# EAGLE library part LAN9303_DEV (library Blizzard_Library)
LAN9303 3 Port Ethernet RMII Switch
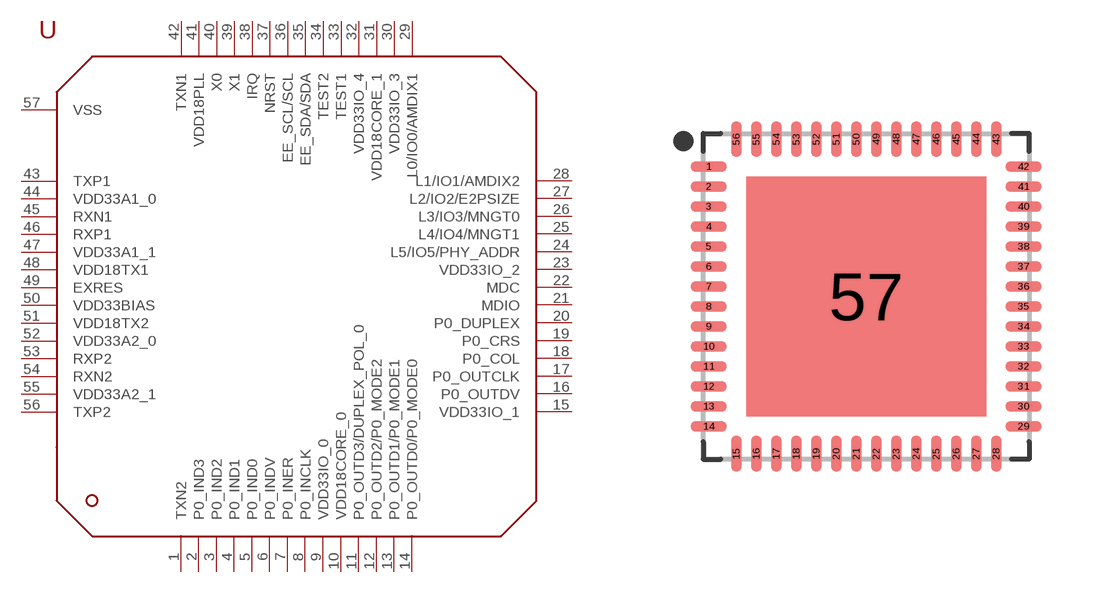
[diagram p22: symbol with the pads of QFN50P800X800X100-57T600; footprint QFN50P800X800X100-57T600]

Designator prefix U

## LAN9303_DEVQFN56 (PN: LAN9303)  [QFN50P800X800X100-57T600]
1  TXN2
2  P0_IND3
3  P0_IND2
4  P0_IND1
5  P0_IND0
6  P0_INDV
7  P0_INER
8  P0_INCLK
9  VDD33IO_0
10  VDD18CORE_0
11  P0_OUTD3/DUPLEX_POL_0
12  P0_OUTD2/P0_MODE2
13  P0_OUTD1/P0_MODE1
14  P0_OUTD0/P0_MODE0
15  VDD33IO_1
16  P0_OUTDV
17  P0_OUTCLK
18  P0_COL
19  P0_CRS
20  P0_DUPLEX
21  MDIO
22  MDC
23  VDD33IO_2
24  L5/IO5/PHY_ADDR
25  L4/IO4/MNGT1
26  L3/IO3/MNGT0
27  L2/IO2/E2PSIZE
28  L1/IO1/AMDIX2
29  L0/IO0/AMDIX1
30  VDD33IO_3
31  VDD18CORE_1
32  VDD33IO_4
33  TEST1
34  TEST2
35  EE_SDA/SDA
36  EE_SCL/SCL
37  NRST
38  IRQ
39  X1
40  X0
41  VDD18PLL
42  TXN1
43  TXP1
44  VDD33A1_0
45  RXN1
46  RXP1
47  VDD33A1_1
48  VDD18TX1
49  EXRES
50  VDD33BIAS
51  VDD18TX2
52  VDD33A2_0
53  RXP2
54  RXN2
55  VDD33A2_1
56  TXP2
57  VSS

## Footprint QFN50P800X800X100-57T600 (pad centres in mm)
56-QFN, 0.50 mm pitch, 8.00 X 8.00 X 1.00 mm body, 6.00 X 6.00 mm thermal pad 56-pin QFN package with 0.50 mm pitch with body size 8.00 X 8.00 X 1.00 mm and thermal pad size 6.00 X 6.00 mm
smd 0.896 x 0.264: 1 -3.937,3.25; 2 -3.937,2.75; 3 -3.937,2.25; 4 -3.937,1.75; 5 -3.937,1.25; 6 -3.937,0.75; 7 -3.937,0.25; 8 -3.937,-0.25; 9 -3.937,-0.75; 10 -3.937,-1.25; 11 -3.937,-1.75; 12 -3.937,-2.25; 13 -3.937,-2.75; 14 -3.937,-3.25; 29 3.937,-3.25; 30 3.937,-2.75; 31 3.937,-2.25; 32 3.937,-1.75; 33 3.937,-1.25; 34 3.937,-0.75; 35 3.937,-0.25; 36 3.937,0.25; 37 3.937,0.75; 38 3.937,1.25; 39 3.937,1.75; 40 3.937,2.25; 41 3.937,2.75; 42 3.937,3.25
smd 0.264 x 0.896: 15 -3.25,-3.937; 16 -2.75,-3.937; 17 -2.25,-3.937; 18 -1.75,-3.937; 19 -1.25,-3.937; 20 -0.75,-3.937; 21 -0.25,-3.937; 22 0.25,-3.937; 23 0.75,-3.937; 24 1.25,-3.937; 25 1.75,-3.937; 26 2.25,-3.937; 27 2.75,-3.937; 28 3.25,-3.937; 43 3.25,3.937; 44 2.75,3.937; 45 2.25,3.937; 46 1.75,3.937; 47 1.25,3.937; 48 0.75,3.937; 49 0.25,3.937; 50 -0.25,3.937; 51 -0.75,3.937; 52 -1.25,3.937; 53 -1.75,3.937; 54 -2.25,3.937; 55 -2.75,3.937; 56 -3.25,3.937
smd 6 x 6: 57 0,0